# Altium footprint library TI.PcbLib: 3 footprints
Each footprint in its own frame and in the unit in brackets; x right, y up, seen from the top. Pads: shape width x height; smd on the part's side, far side on the other; paste and mask are expansions set on the pad; w line width, h text height; cw(c..) or ccw(c..) is an arc to the next point about the centre after c.
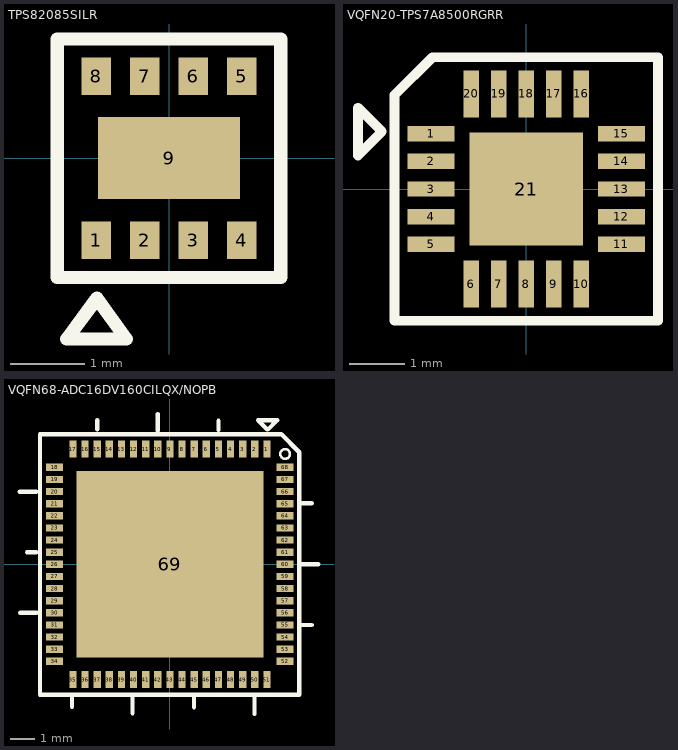
[diagram p0: the footprints below, top view; thin cyan lines are the x and y axes]

## TPS82085SILR [mm]
pads (9):
  rect 0.4x0.5 smd: 1(-0.975,-1.1) 2(-0.325,-1.1) 3(0.325,-1.1) 4(0.975,-1.1) 5(0.975,1.1) 6(0.325,1.1) 7(-0.325,1.1) 8(-0.975,1.1)
  rect 1.9x1.1 smd: 9(0,0)
Top Overlay:
  lines w0.178: -1.5,-1.6 -1.5,1.6 1.5,1.6 1.5,-1.6 -1.5,-1.6 ; -1.373,-2.426 -0.965,-1.88 -0.573,-2.426 -1.373,-2.426

## VQFN20-TPS7A8500RGRR [mm]
pads (21):
  rect 0.85x0.28 smd: 1(-1.725,1) 2(-1.725,0.5) 3(-1.725,0) 4(-1.725,-0.5) 5(-1.725,-1) 11(1.725,-1) 12(1.725,-0.5) 13(1.725,0) 14(1.725,0.5) 15(1.725,1)
  rect 0.28x0.85 smd: 6(-1,-1.725) 7(-0.5,-1.725) 8(0,-1.725) 9(0.5,-1.725) 10(1,-1.725) 16(1,1.725) 17(0.5,1.725) 18(0,1.725) 19(-0.5,1.725) 20(-1,1.725)
  rect 2.05x2.05 smd: 21(0,0)
Top Overlay:
  lines w0.178: -3.048,0.61 -2.616,1.041 -3.048,1.473 -3.048,0.61 ; -2.388,-2.388 2.388,-2.388 2.388,2.388 -1.702,2.388 -2.388,1.702 -2.388,-2.388

## VQFN68-ADC16DV160CILQX/NOPB [mm]
pads (69):
  rect 0.3x0.7 smd: 1(4,4.75) 2(3.5,4.75) 3(3,4.75) 4(2.5,4.75) 5(2,4.75) 6(1.5,4.75) 7(1,4.75) 8(0.5,4.75) 9(0,4.75) 10(-0.5,4.75) 11(-1,4.75) 12(-1.5,4.75) 13(-2,4.75) 14(-2.5,4.75) 15(-3,4.75) 16(-3.5,4.75) 17(-4,4.75) 35(-4,-4.75) 36(-3.5,-4.75) 37(-3,-4.75) 38(-2.5,-4.75) 39(-2,-4.75) 40(-1.5,-4.75) 41(-1,-4.75) 42(-0.5,-4.75) 43(0,-4.75) 44(0.5,-4.75) 45(1,-4.75) 46(1.5,-4.75) 47(2,-4.75) 48(2.5,-4.75) 49(3,-4.75) 50(3.5,-4.75) 51(4,-4.75)
  rect 0.7x0.3 smd: 18(-4.75,4) 19(-4.75,3.5) 20(-4.75,3) 21(-4.75,2.5) 22(-4.75,2) 23(-4.75,1.5) 24(-4.75,1) 25(-4.75,0.5) 26(-4.75,0) 27(-4.75,-0.5) 28(-4.75,-1) 29(-4.75,-1.5) 30(-4.75,-2) 31(-4.75,-2.5) 32(-4.75,-3) 33(-4.75,-3.5) 34(-4.75,-4) 52(4.75,-4) 53(4.75,-3.5) 54(4.75,-3) 55(4.75,-2.5) 56(4.75,-2) 57(4.75,-1.5) 58(4.75,-1) 59(4.75,-0.5) 60(4.75,0) 61(4.75,0.5) 62(4.75,1) 63(4.75,1.5) 64(4.75,2) 65(4.75,2.5) 66(4.75,3) 67(4.75,3.5) 68(4.75,4)
  rect 7.7x7.7 smd: 69(0,0)
Top Overlay:
  circle w0.1: c4.75,4.55 r0.2
  lines w0.178: -6.198,2.988 -5.512,2.988 ; -6.172,-1.998 -5.486,-1.998 ; -5.893,0.5 -5.512,0.5 ; -4.039,-5.867 -4.039,-5.486 ; -2.997,5.563 -2.997,5.944 ; -1.541,-6.147 -1.541,-5.461 ; -0.498,5.512 -0.498,6.198 ; 0.991,-5.893 0.991,-5.512 ; 2,5.537 2,5.918 ; 3.489,-6.172 3.489,-5.486 ; 4.013,5.563 3.632,5.944 4.42,5.944 4.039,5.563 ; 5.436,-0.002 6.121,-0.002 ; 5.461,-2.5 5.842,-2.5 ; 5.461,2.515 5.842,2.515 ; -5.359,-5.385 5.334,-5.385 5.334,4.623 4.588,5.369 -5.359,5.369 -5.359,-5.385